# Altium schematic symbol library SnapEDAsch.SchLib: 1 symbol
Pins are listed as number, name and electrical type; pins without a type are passive.

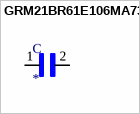
[diagram p0: symbol GRM21BR61E106MA73L]

## GRM21BR61E106MA73L
designator C
SMD Capacitor X5R_EIA_ with Capacitance: 10uF Tol. 20%. Rated Voltage: 25Vdc; MP: GRM21BR61E106MA73L; MF: Murata; SnapEDA_Link: https://www.snapeda.com/parts/GRM21BR61E106MA73L/Murata/view-part/4382353/?ref=snap; Package: 2012 Murata; Value: *; Digi-Key_Part_Number: 490-10748-1-ND; Digi-Key_Purchase_URL: https://www.digikey.com/product-detail/en/murata-electronics/GRM21BR61E106MA73L/490-10748-1-ND/5251352?utm_source=snapeda&utm_medium=aggregator&utm_campaign=symbol
footprint CAPC2012X140N
pins: 1, 2